# EAGLE library part BAS16TW-7-F (library SamacSys_Parts)
Diodes Inc BAS16TW-7-F Triple Switching Diode, Isolated, 300mA 75V, 6-Pin SOT-363 Source: Datasheet <https://www.diodes.com/assets/Datasheets/ds30154.pdf>
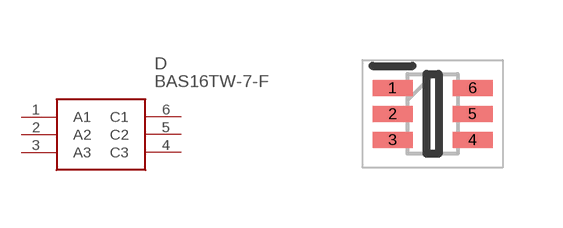
[diagram p13: symbol with the pads of SOT65P210X110-6N; footprint SOT65P210X110-6N]

Designator prefix D

## BAS16TW-7-F (ARROW_PART_NUMBER: BAS16TW-7-F; ARROW_PRICE-STOCK: https://www.arrow.com/en/products/bas16tw-7-f/diodes-incorporated; DESCRIPTION: Diodes Inc BAS16TW-7-F Triple Switching Diode, Isolated, 300mA 75V, 6-Pin SOT-363; HEIGHT: 1.1mm; MANUFACTURER_NAME: Diodes Inc.; MANUFACTURER_PART_NUMBER: BAS16TW-7-F; MOUSER_PART_NUMBER: 621-BAS16TW-F; MOUSER_PRICE-STOCK: https://www.mouser.co.uk/ProductDetail/Diodes-Incorporated/BAS16TW-7-F/?qs=KC%252B4mLP2o6wtzLwnkSJDpQ%3D%3D)  [SOT65P210X110-6N]
1  A1
2  A2
3  A3
4  C3
5  C2
6  C1

## Footprint SOT65P210X110-6N (pad centres in mm)
SOT-363_1
smd 1 x 0.4: 1 -1,0.65; 2 -1,0; 3 -1,-0.65; 4 1,-0.65; 5 1,0; 6 1,0.65